# EAGLE library part DIPSWITCH-4 (library Passives)
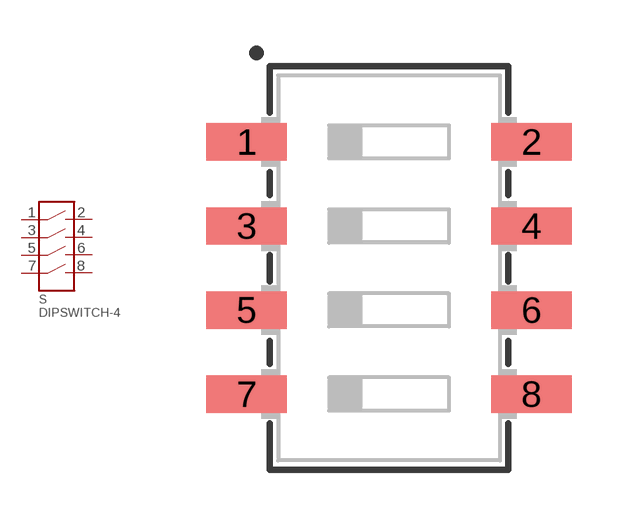
[diagram p14: symbol with the pads of DIPSWITCH-4; footprint DIPSWITCH-4]

Designator prefix S

## DIPSWITCH-4  [DIPSWITCH-4]
1  1
2  2
3  3
4  4
5  5
6  6
7  7
8  8

## Footprint DIPSWITCH-4 (pad centres in mm)
smd 2.44 x 1.13: 1 -4.3,3.81; 2 4.3,3.81; 3 -4.3,1.27; 4 4.3,1.27; 5 -4.3,-1.27; 6 4.3,-1.27; 7 -4.3,-3.81; 8 4.3,-3.81